# EAGLE library part AUDIO-CONNECTOR-6P-SMD (library OPL)
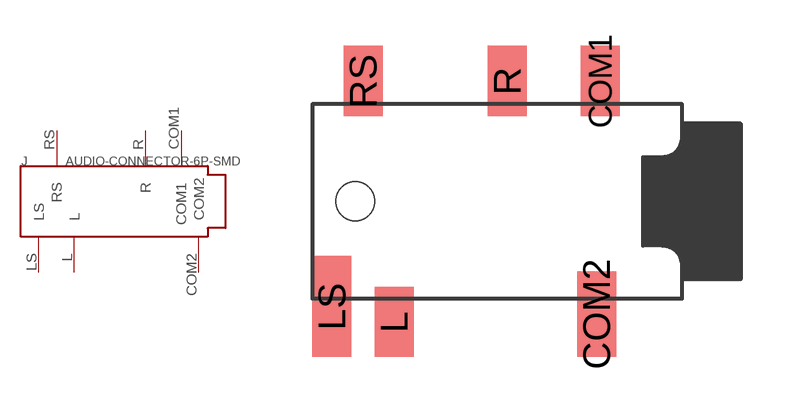
[diagram p16: symbol with the pads of 6P-SMD-3.5; footprint 6P-SMD-3.5]

Designator prefix J

## AUDIO-CONNECTOR-6P-SMD-3440030P1  [6P-SMD-3.5]
COM1  COM1
COM2  COM2
L  L
LS  LS
R  R
RS  RS

## Footprint 6P-SMD-3.5 (pad centres in mm)
smd 1.27 x 2.286: COM1 2.413,3.937; L -4.318,-3.937; R -0.635,3.937; RS -5.334,3.937
smd 1.27 x 2.794: COM2 2.286,-3.683
smd 1.27 x 3.302: LS -6.35,-3.429
hole 1.27 at -5.588,0